# EAGLE library part ?M10B-SRSS-TB (library con-jst)
Disconnectable Crimp style connector, 1.0mm pitch 10 contacts
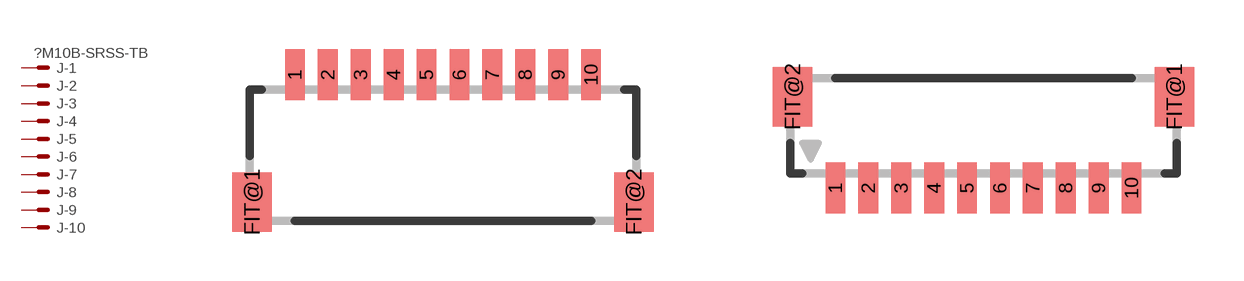
[diagram p26: symbol with the pads of SM10B-SRSS-TB; footprints SM10B-SRSS-TB, BM10B-SRSS-TB]

Designator prefix J; gates -1=KV -2=K -3=K -4=K -5=K -6=K -7=K -8=K -9=K -10=K

## SM10B-SRSS-TB  [SM10B-SRSS-TB]
1  -1:S  pas
2  -2:S  pas
3  -3:S  pas
4  -4:S  pas
5  -5:S  pas
6  -6:S  pas
7  -7:S  pas
8  -8:S  pas
9  -9:S  pas
10  -10:S  pas

## BM10B-SRSS-TB  [BM10B-SRSS-TB]
Pads as for SM10B-SRSS-TB

## Footprint SM10B-SRSS-TB (pad centres in mm)
Shrouded Header, side entry type
smd 0.6 x 1.55: 1 -4.5,2.975; 2 -3.5,2.975; 3 -2.5,2.975; 4 -1.5,2.975; 5 -0.5,2.975; 6 0.5,2.975; 7 1.5,2.975; 8 2.5,2.975; 9 3.5,2.975; 10 4.5,2.975
smd 1.2 x 1.8: FIT@1 -5.8,-0.9; FIT@2 5.8,-0.9

## Footprint BM10B-SRSS-TB (pad centres in mm)
Shrouded Header, top entry type
smd 0.6 x 1.55: 1 -4.5,-1.875; 2 -3.5,-1.875; 3 -2.5,-1.875; 4 -1.5,-1.875; 5 -0.5,-1.875; 6 0.5,-1.875; 7 1.5,-1.875; 8 2.5,-1.875; 9 3.5,-1.875; 10 4.5,-1.875
smd 1.2 x 1.8: FIT@1 5.8,0.9; FIT@2 -5.8,0.9